# Altium schematic symbol library switches.SchLib: 4 symbols
Pins are listed as number, name and electrical type; pins without a type are passive.

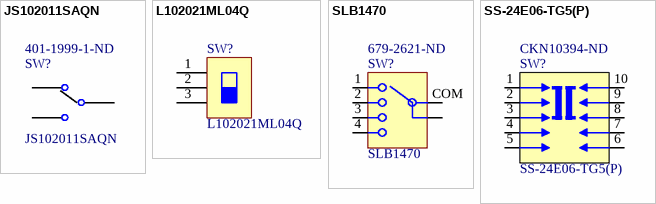
[diagram p0: symbols JS102011SAQN to SS-24E06-TG5(P)]

## JS102011SAQN
designator SW?  Supplier Part Number 1: 401-1999-1-ND
JS10 Series SPDT On-On 6 V 0.3 A Gull Wing SMT Slide Switch; Manufacturer: ITT C&K; Actuator Material: Nylon,Polyamide,PA46; Actuator Color: Black; Max Current Rating: 300mA; Voltage Rating (DC): 6V; Contact Resistance: 70mR; Electrical Life: 5000Cycles; Illumination Type: Non-Illuminated; Switch Travel: 2mm; Actuator Type: Standard; Supplier 1: Digi-Key; Manufacturer Part Number: JS102011SAQN; RoHS: Yes; Category: Slide Switches; Stock 1: 28361; Pricing 1: 1=0,66000, 10=0,64100, 25=0,61680, 100=0,53390, 250=0,48648, 500=0,45088 (USD); Mount: Surface Mount; Case/Package: 100; Contact Material: Copper Alloy,Copper,Silver; Contact Plating: Silver; Housing Material: Nylon; Min Operating Temperature: -40°C; Max Operating Temperature: 85°C; Packaging: Tape and Reel; Throw Configuration: SPDT; Package Quantity: 1; Max Voltage Rating (DC): 6V; Current Rating: 300mA; Contact Current Rating: 300mA; Termination: Gull Wing; Orientation: Right Angle; Switch Function: On-On; Series: JS; Length: 9mm; Actuator Length: 2mm; Radiation Hardening: No; Reach SVHC Compliant: No; Lead Free: Lead Free; RoHS Compliant: Yes; ComponentLink1URL: https://datasheet.ciiva.com/5279/js-1nov12-221285-5279564.pdf?src-supplier=Mouser; ComponentLink1Description: https://datasheet.ciiva.com/5279/js-1nov12-221285-5279564.pdf?src-supplier=Mouser; ComponentLink2URL: https://datasheet.ciiva.com/16442/js102011saqn-16442775.pdf?src-supplier=Future+Electronics; ComponentLink2Description: https://datasheet.ciiva.com/16442/js102011saqn-16442775.pdf?src-supplier=Future+Electronics; ComponentLink3URL: https://datasheet.ciiva.com/1532/js-9dec14-1532400.pdf?src-supplier=Element14; ComponentLink3Description: https://datasheet.ciiva.com/1532/js-9dec14-1532400.pdf?src-supplier=Element14; ComponentLink4URL: https://datasheet.ciiva.com/8625/js-9dec14-8625466.pdf?src-supplier=Avnet; ComponentLink4Description: https://datasheet.ciiva.com/8625/js-9dec14-8625466.pdf?src-supplier=Avnet; ComponentLink5URL: https://datasheet.ciiva.com/2889/js-9dec14-2889130.pdf?src-supplier=Digi-Key; ComponentLink5Description: https://datasheet.ciiva.com/2889/js-9dec14-2889130.pdf?src-supplier=Digi-Key; ComponentLink6URL: https://datasheet.ciiva.com/2889/js-9dec14-2889131.pdf?src-supplier=Digi-Key; ComponentLink6Description: https://datasheet.ciiva.com/2889/js-9dec14-2889131.pdf?src-supplier=Digi-Key; ComponentLink7URL: https://datasheet.ciiva.com/2889/js-9dec14-2889132.pdf?src-supplier=Digi-Key; ComponentLink7Description: https://datasheet.ciiva.com/2889/js-9dec14-2889132.pdf?src-supplier=Digi-Key; ComponentLink8URL: https://datasheet.ciiva.com/16174/js-3nov11-16174349.pdf?src-supplier=Onlinecomponents.com; ComponentLink8Description: https://datasheet.ciiva.com/16174/js-3nov11-16174349.pdf?src-supplier=Onlinecomponents.com; ComponentLink9URL: https://datasheet.ciiva.com/18147/getdatasheetpartid-313004-18147207.pdf?src-supplier=Verical; ComponentLink9Description: https://datasheet.ciiva.com/18147/getdatasheetpartid-313004-18147207.pdf?src-supplier=Verical
footprint C&Q_JS102011SAQN (SWITCH SLIDE SPDT 300MA 6V)
pins: 1, 2, 3

## L102021ML04Q
designator SW?
SWITCH SLIDE SPDT 4A 125V; Manufacturer: ITT C&K; Body Material: Stainless Steel,Nylon; Actuator Material: Nylon,Polyamide; Switch Function: On-On; Number of Poles: 1; Voltage Rating (DC): 28V; Max Voltage Rating (AC): 250V; Electrical Life: 10000Cycles; Number of Positions: 2; Switch Travel: 3.56mm; Actuator Type: Standard; Actuator Length: 8.51mm; Approvals: UL; Supplier 1: Digi-Key; Manufacturer Part Number: L102021ML04Q; RoHS: Yes; Category: Slide Switches; Stock 1: 1539; Pricing 1: 1=2,13000, 10=2,07200, 25=1,88440, 100=1,63700, 250=1,48352, 500=1,38122, 1000=1,27890, 2500=1,15954, 5000=1,07428 (USD); Mount: Through Hole,PCB; Contact Material: Copper,Silver; Contact Plating: Silver; Housing Material: Nylon; Min Operating Temperature: -30°C; Max Operating Temperature: 65°C; Current Rating: 4A; Orientation: Right Angle; Voltage Rating (AC): 125V; Max Current Rating: 4A; Throw Configuration: SPDT; Max Voltage Rating (DC): 125V; Packaging: Bulk; Contact Current Rating: 4A; Package Quantity: 1; Termination: PC Pins; Length: 19.3mm; Depth: 20.45mm; Radiation Hardening: No; Lead Free: Lead Free; Flammability Rating: UL94 V-2; ComponentLink1URL: https://datasheet.ciiva.com/16290/l102021ml04q-16290324.pdf?src-supplier=Future+Electronics; ComponentLink1Description: https://datasheet.ciiva.com/16290/l102021ml04q-16290324.pdf?src-supplier=Future+Electronics; ComponentLink2URL: https://datasheet.ciiva.com/8627/l-10jun14-8627375.pdf?src-supplier=Avnet; ComponentLink2Description: https://datasheet.ciiva.com/8627/l-10jun14-8627375.pdf?src-supplier=Avnet; ComponentLink3URL: https://datasheet.ciiva.com/2889/l-10jun14-2889244.pdf?src-supplier=Digi-Key; ComponentLink3Description: https://datasheet.ciiva.com/2889/l-10jun14-2889244.pdf?src-supplier=Digi-Key; Value: L102021ML04Q; Supplier Part Number 1: CKC5102-ND
footprint L102021ML04Q
pins: 1, 2, 3

## SLB1470
designator SW?  Supplier Part Number 1: 679-2621-ND
Slide Switch; SP4T; ON-ON-ON-ON; Through Hole; 300mA; 125VAV; 30VDC; PC; Manufacturer: APEM; Actuator Material: Thermoplastic; Voltage Rating (AC): 125V; Voltage Rating (DC): 30V; Contact Resistance: 20mR; Operating Force: 220gf; Electrical Life: 10000Cycles; Switch Travel: 2.3mm; Actuator Type: Standard; Illumination Type: Non-Illuminated; Actuator Length: 5mm; Supplier 1: Digi-Key; Manufacturer Part Number: SLB1470; RoHS: Yes; Category: Slide Switches; Stock 1: 41433; Pricing 1: 1=1,84000, 10=1,79200, 25=1,62960, 100=1,41560, 250=1,28292, 500=1,19442, 1000=1,10595, 2500=1,00273, 5000=0,92900 (USD); Mount: Through Hole; Contact Plating: Silver; Min Operating Temperature: -20°C; Max Operating Temperature: 85°C; Package Quantity: 100; Current Rating: 300mA; Max Voltage Rating (AC): 125V; Packaging: Bulk; Max Voltage Rating (DC): 30V; Termination: PC Pin; Throw Configuration: SP4T; Orientation: Straight; Series: SLB; Switch Function: ON-ON-ON-ON; RoHS Compliant: Yes; ComponentLink1URL: https://datasheet.ciiva.com/16174/slb-mini-slide-16174655.pdf?src-supplier=Onlinecomponents.com; ComponentLink1Description: https://datasheet.ciiva.com/16174/slb-mini-slide-16174655.pdf?src-supplier=Onlinecomponents.com
footprint APEM_SLB1470 (SWITCH SLIDE SP4T 300MA 125V)
pins: 1, 2, 3, 4, COM C, COM C

## SS-24E06-TG5(P)
designator SW?  Supplier Part Number 1: CKN10394-ND
SWITCH SLIDE DP4T 300MA 30V; Manufacturer: ITT C&K; Actuator Material: Polyoxymethylene,Acetal; Operating Force: 250gf; Contact Style: Shorting; Electrical Life: 10000Cycles; Illumination Type: Non-Illuminated; Switch Travel: 2.5mm; Actuator Type: Standard; Switch Function: ON-ON-ON-ON; Actuator Length: 5mm; Supplier 1: Digi-Key; Manufacturer Part Number: SS-24E06-TG5(P); RoHS: Yes; Category: Slide Switches; Mount: Through Hole; Contact Plating: Silver; Contact Material: Copper Alloy; Min Operating Temperature: -20°C; Max Operating Temperature: 70°C; Current Rating: 300mA; Contact Current Rating: 300mA; Package Quantity: 500; Voltage Rating (DC): 30V; Packaging: Bulk; Termination: PC Pin; Throw Configuration: DP4T; Series: SS, COMAX; ComponentLink1URL: https://datasheet.ciiva.com/5279/ss-24e06-tg-5-p-187435-5279673.pdf?src-supplier=Mouser; ComponentLink1Description: https://datasheet.ciiva.com/5279/ss-24e06-tg-5-p-187435-5279673.pdf?src-supplier=Mouser; ComponentLink2URL: https://datasheet.ciiva.com/2889/ss-24e06-tg-5-p-2889209.pdf?src-supplier=Digi-Key; ComponentLink2Description: https://datasheet.ciiva.com/2889/ss-24e06-tg-5-p-2889209.pdf?src-supplier=Digi-Key
footprint SW_SS-24E06-TG_5_(P)
pins: 1, 2, 3, 4, 5, 6, 7, 8, 9, 10